# Altium footprint library IG100.PcbLib: 1 footprints
Each footprint in its own frame and in the unit in brackets; x right, y up, seen from the top. Pads: shape width x height; smd on the part's side, far side on the other; paste and mask are expansions set on the pad; w line width, h text height; cw(c..) or ccw(c..) is an arc to the next point about the centre after c.
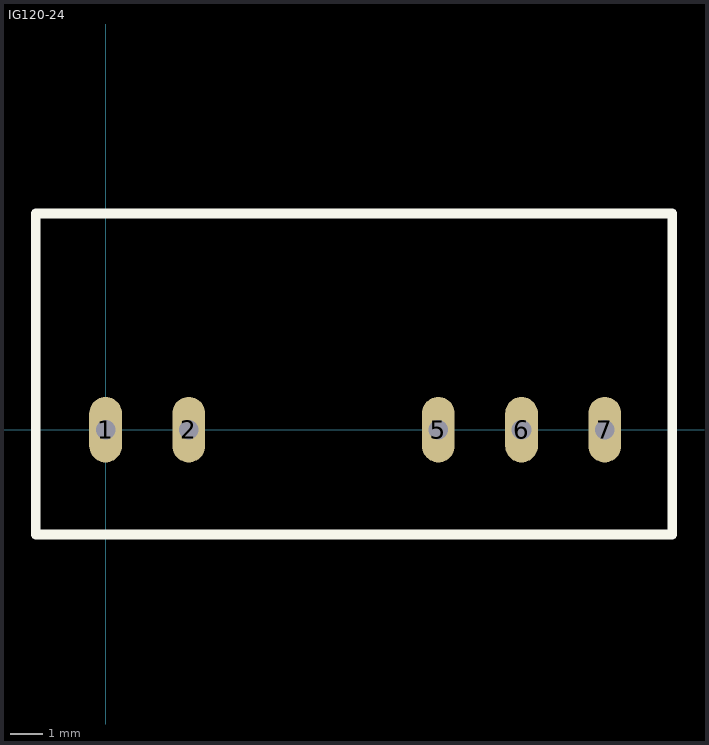
[diagram p0: the footprint, top view; thin cyan lines are the x and y axes]

## IG120-24 [mm]
pads (5):
  oval 1x2 hole 0.6: 1(0,0) 2(2.54,0) 5(10.16,0) 6(12.7,0) 7(15.24,0)
Top Overlay:
  lines w0.3: -2.13,-3.2 -2.13,0 -2.13,6.6 17.3,6.6 17.3,-3.2 -2.13,-3.2